# EAGLE library part LV8548M (library LV8548M)
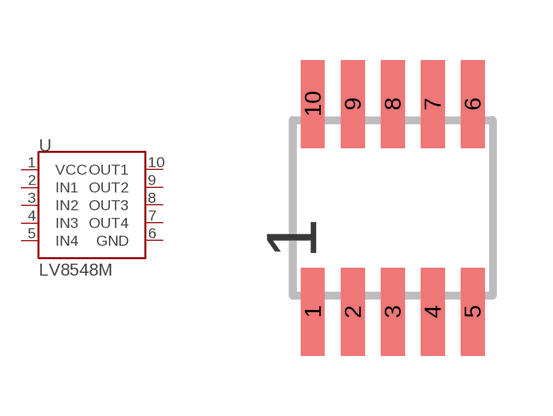
[diagram p0: symbol with the pads of MFP10S; footprint MFP10S]

Designator prefix -

## LV8548M  [MFP10S]
1  VCC  pwr
2  IN1  in
3  IN2  in
4  IN3  in
5  IN4  in
6  GND  pwr
7  OUT4  out
8  OUT3  out
9  OUT2  out
10  OUT1  out

## Footprint MFP10S (pad centres in mm)
SMALL OUTLINE PACKAGE
smd 0.6 x 2.2: 1 -2,-2.6; 2 -1,-2.6; 3 0,-2.6; 4 1,-2.6; 5 2,-2.6; 6 2,2.6; 7 1,2.6; 8 0,2.6; 9 -1,2.6; 10 -2,2.6